# EAGLE library part CAT93C46YI-G (library Catalyst_Semiconductor_By_element14_Batch_1)
1 kb EEPROM
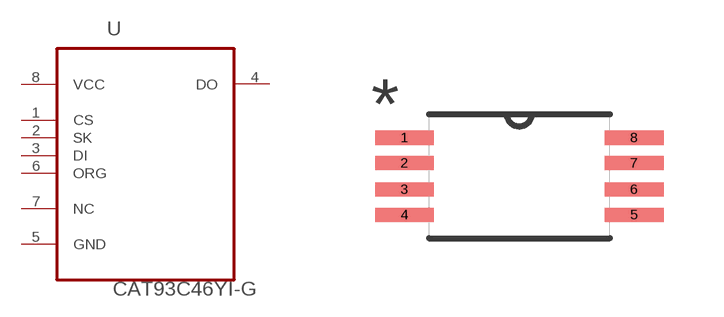
[diagram p31: symbol with the pads of SOP65P640X120-8N; footprint SOP65P640X120-8N]

Designator prefix U

## CAT93C46YI-G (MPN: CAT93C46YI-G; OC_FARNELL: 1718375; OC_NEWARK: 74P0100; PACKAGE: TSSOP-8; SUPPLIER: CATALYST SEMICONDUCTOR)  [SOP65P640X120-8N]
1  CS  in
2  SK  in
3  DI  in
4  DO  out
5  GND  pas
6  ORG  in
7  NC  nc
8  VCC  pwr

## Footprint SOP65P640X120-8N (pad centres in mm)
smd 1.473 x 0.356: 1 -2.87,0.965; 2 -2.87,0.33; 3 -2.87,-0.33; 4 -2.87,-0.965; 5 2.87,-0.965; 6 2.87,-0.33; 7 2.87,0.33; 8 2.87,0.965